# EAGLE library part STM32G030F6P6 (library STM32G030F6P6)
Arm Cortex-M0+ 32-bit MCU, up to 64 KB Flash, 8 KB RAM, 2x USART, timers, ADC, comm. I/Fs, 2.0-3.6V Source: Datasheet <https://www.st.com/resource/en/datasheet/stm32g030c6.pdf>
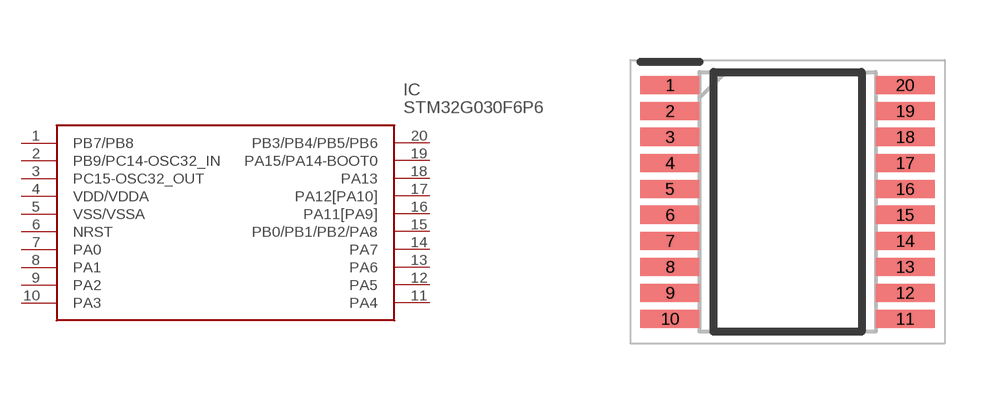
[diagram p0: symbol with the pads of SOP65P640X120-20N; footprint SOP65P640X120-20N]

Designator prefix IC

## STM32G030F6P6 (Description: Arm Cortex-M0+ 32-bit MCU, up to 64 KB Flash, 8 KB RAM, 2x USART, timers, ADC, comm. I/Fs, 2.0-3.6V; Height: 1.2mm; Manufacturer_Name: STMicroelectronics; Manufacturer_Part_Number: STM32G030F6P6; Mouser_Part_Number: 511-STM32G030F6P6; Mouser_Price-Stock: https://www.mouser.co.uk/ProductDetail/STMicroelectronics/STM32G030F6P6?qs=uwxL4vQweFOQRcVHghCbHA%3D%3D)  [SOP65P640X120-20N]
1  PB7/PB8
2  PB9/PC14-OSC32_IN
3  PC15-OSC32_OUT
4  VDD/VDDA
5  VSS/VSSA
6  NRST
7  PA0
8  PA1
9  PA2
10  PA3
11  PA4
12  PA5
13  PA6
14  PA7
15  PB0/PB1/PB2/PA8
16  PA11[PA9]
17  PA12[PA10]
18  PA13
19  PA15/PA14-BOOT0
20  PB3/PB4/PB5/PB6

## Footprint SOP65P640X120-20N (pad centres in mm)
TSSOP20 **
smd 1.475 x 0.45: 1 -2.938,2.925; 2 -2.938,2.275; 3 -2.938,1.625; 4 -2.938,0.975; 5 -2.938,0.325; 6 -2.938,-0.325; 7 -2.938,-0.975; 8 -2.938,-1.625; 9 -2.938,-2.275; 10 -2.938,-2.925; 11 2.938,-2.925; 12 2.938,-2.275; 13 2.938,-1.625; 14 2.938,-0.975; 15 2.938,-0.325; 16 2.938,0.325; 17 2.938,0.975; 18 2.938,1.625; 19 2.938,2.275; 20 2.938,2.925